# EAGLE library part E-PBL3717A (library ST Microelctronics_By_element14_Batch_1)
STEPPER MOTOR DRIVER
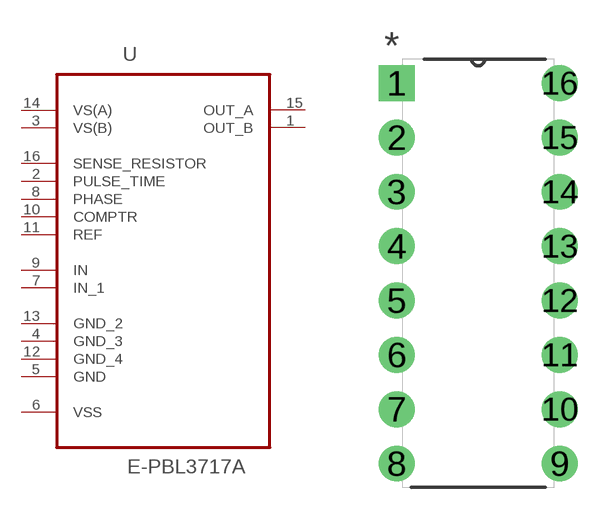
[diagram p2: symbol with the pads of DIP254P762X510-16; footprint DIP254P762X510-16]

Designator prefix U

## E-PBL3717A (MPN: E-PBL3717A; OC_FARNELL: 1159695; OC_NEWARK: 89K0940; PACKAGE: PDIP-16; SUPPLIER: STMICROELECTRONICS)  [DIP254P762X510-16]
1  OUT_B  out
2  PULSE_TIME  pas
3  VS(B)  pwr
4  GND_3  pas
5  GND  pas
6  VSS  pwr
7  IN_1  in
8  PHASE  pas
9  IN  in
10  COMPTR  pas
11  REF  in
12  GND_4  pas
13  GND_2  pas
14  VS(A)  pwr
15  OUT_A  out
16  SENSE_RESISTOR  pas

## Footprint DIP254P762X510-16 (pad centres in mm)
drill 1.118 square: 1 -7.62,17.78
drill 1.118: 2 -7.62,15.24; 3 -7.62,12.7; 4 -7.62,10.16; 5 -7.62,7.62; 6 -7.62,5.08; 7 -7.62,2.54; 8 -7.62,0; 9 0,0; 10 0,2.54; 11 0,5.08; 12 0,7.62; 13 0,10.16; 14 0,12.7; 15 0,15.24; 16 0,17.78